# Altium schematic symbol library Schottky_SOT23-3.SchLib: 1 symbol
Pins are listed as number, name and electrical type; pins without a type are passive.

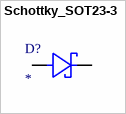
[diagram p0: symbol Schottky_SOT23-3]

## Schottky_SOT23-3
designator D?
Value: *
pins: 1 A, 3 K